# EAGLE library part HEF4046BT (library NXP_By_element14_Batch_1)
Phase-locked loop
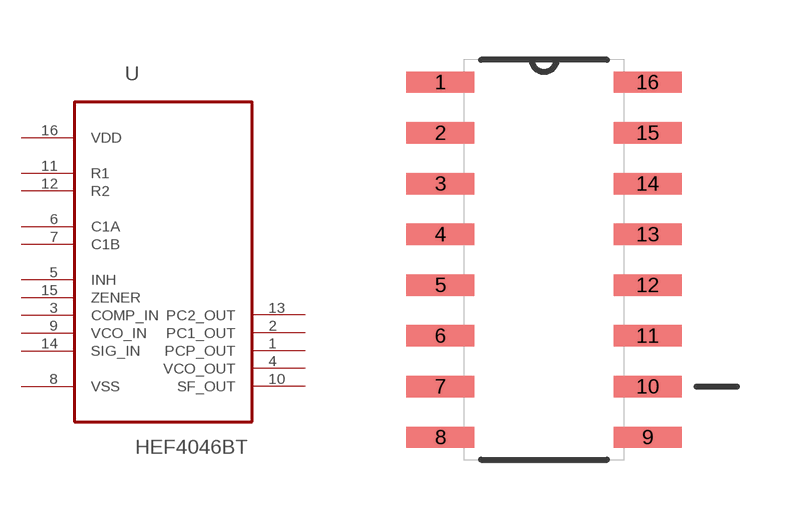
[diagram p254: symbol with the pads of SOIC127P600X175-16N; footprint SOIC127P600X175-16N]

Designator prefix U

## HEF4046BT (MPN: HEF4046BT; OC_FARNELL: 1085283; OC_NEWARK: 97K1290; P1I: o; PACKAGE: SOIC-16; SUPPLIER: NXP)  [SOIC127P600X175-16N]
1  PCP_OUT  out
2  PC1_OUT  out
3  COMP_IN  in
4  VCO_OUT  out
5  INH  in
6  C1A  pas
7  C1B  pas
8  VSS  pwr
9  VCO_IN  in
10  SF_OUT  out
11  R1  pas
12  R2  pas
13  PC2_OUT  out
14  SIG_IN  in
15  ZENER  in
16  VDD  pwr

## Footprint SOIC127P600X175-16N (pad centres in mm)
smd 1.702 x 0.533: 1 -2.591,4.445; 2 -2.591,3.175; 3 -2.591,1.905; 4 -2.591,0.635; 5 -2.591,-0.635; 6 -2.591,-1.905; 7 -2.591,-3.175; 8 -2.591,-4.445; 9 2.591,-4.445; 10 2.591,-3.175; 11 2.591,-1.905; 12 2.591,-0.635; 13 2.591,0.635; 14 2.591,1.905; 15 2.591,3.175; 16 2.591,4.445